# Altium integrated library IRF9530.IntLib: 1 symbol
Pins are listed as number, name and electrical type; pins without a type are passive.

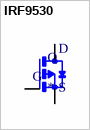
[diagram p0: symbol IRF9530]

## IRF9530
designator Q
P-Channel 100V 14A _Tc_ 79W _Tc_ Through Hole TO-220AB; MF: Vishay; MP: IRF9530; Availability: Unavailable; Price: None; SnapEDA_Link: https://www.snapeda.com/parts/IRF9530/Vishay%20Siliconix/view-part/1770510/?ref=snap; Package: TO-220 Intersil; Value: *
footprint TO220
pins: 1 G, 2 D, 3 S